# EAGLE library part VGA-PORT (library crasbe)
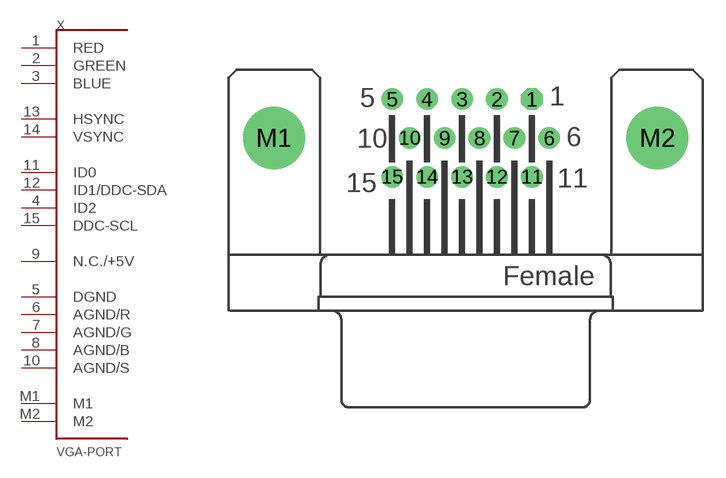
[diagram p24: symbol with the pads of HD15F; footprint HD15F]

Designator prefix X

## VGA-PORT  [HD15F]
1  RED  out
2  GREEN  out
3  BLUE  out
4  ID2  in
5  DGND  pwr
6  AGND/R  pwr
7  AGND/G  pwr
8  AGND/B  pwr
9  N.C./+5V  pwr
10  AGND/S  pwr
11  ID0  in
12  ID1/DDC-SDA
13  HSYNC  out
14  VSYNC  out
15  DDC-SCL
M1  M1  pwr
M2  M2  pwr

## Footprint HD15F (pad centres in mm)
drill 0.9 octagon: 1 4.329,6.35
drill 0.9: 2 2.043,6.35; 3 -0.243,6.35; 4 -2.529,6.35; 5 -4.815,6.35; 6 5.472,3.81; 7 3.186,3.81; 8 0.9,3.81; 9 -1.386,3.81; 10 -3.672,3.81; 11 4.329,1.27; 12 2.043,1.27; 13 -0.243,1.27; 14 -2.529,1.27; 15 -4.815,1.27
drill 3.048: M1 -12.541,3.81; M2 12.541,3.81